# Altium footprint library 2440PCBV5.PcbLib: 136 footprints (part 9 of 9)
Each footprint in its own frame and in the unit in brackets; x right, y up, seen from the top. Pads: shape width x height; smd on the part's side, far side on the other; paste and mask are expansions set on the pad; w line width, h text height; cw(c..) or ccw(c..) is an arc to the next point about the centre after c.
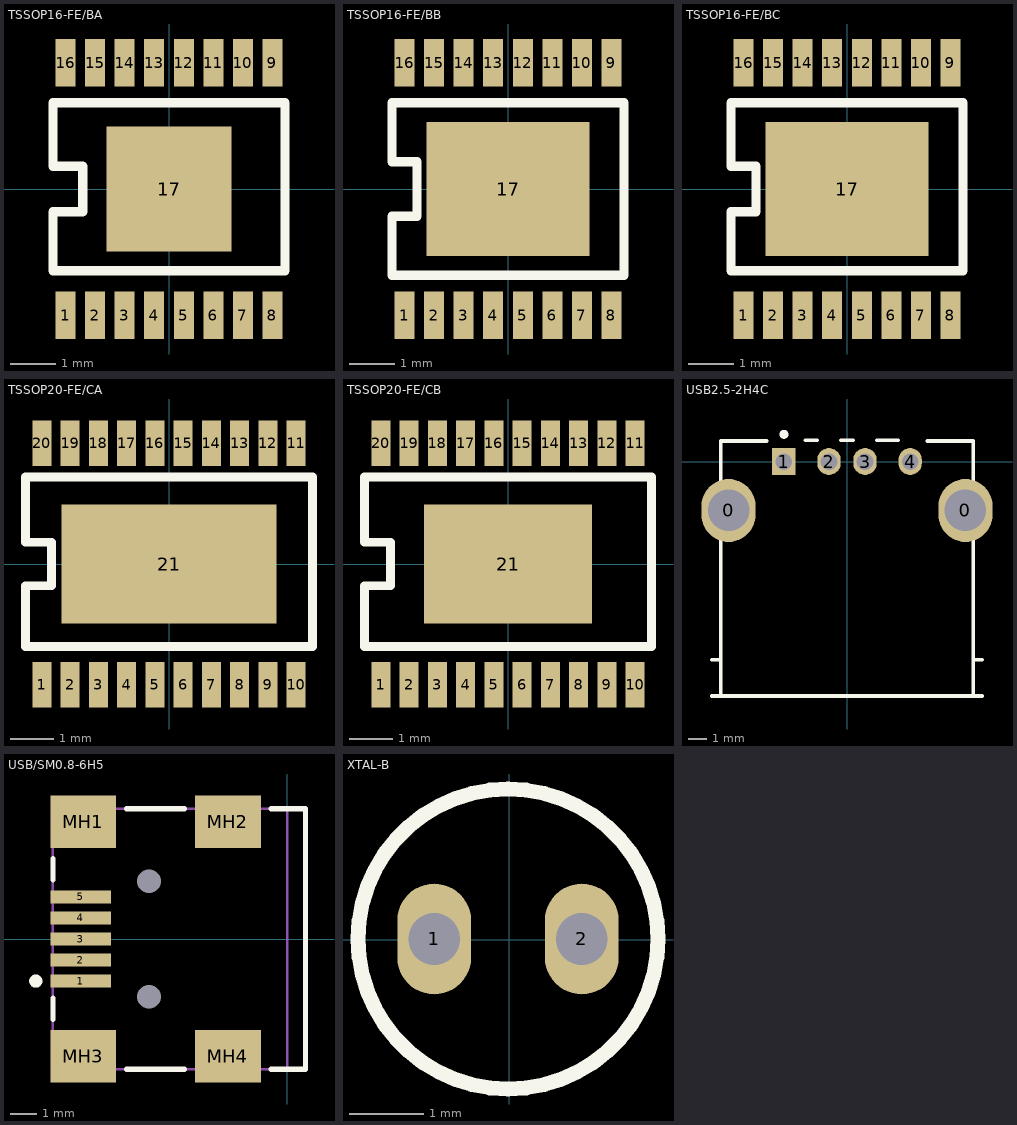
[diagram p8: the footprints below, top view; thin cyan lines are the x and y axes]

## TSSOP16-FE/BA [mm]
pads (17):
  rect 0.44x1.05 smd: 1(-2.275,-2.775) 2(-1.625,-2.775) 3(-0.975,-2.775) 4(-0.325,-2.775) 5(0.325,-2.775) 6(0.975,-2.775) 7(1.625,-2.775) 8(2.275,-2.775) 9(2.275,2.775) 10(1.625,2.775) 11(0.975,2.775) 12(0.325,2.775) 13(-0.325,2.775) 14(-0.975,2.775) 15(-1.625,2.775) 16(-2.275,2.775)
  rect 2.74x2.74 smd: 17(0,0)
Top Overlay:
  lines w0.203: -2.55,-1.8 2.55,-1.8 2.55,1.9 -2.55,1.9 -2.55,0.5 -1.9,0.5 -1.9,-0.5 -2.55,-0.5 -2.55,-1.8

## TSSOP16-FE/BB [mm]
pads (17):
  rect 0.44x1.05 smd: 1(-2.275,-2.775) 2(-1.625,-2.775) 3(-0.975,-2.775) 4(-0.325,-2.775) 5(0.325,-2.775) 6(0.975,-2.775) 7(1.625,-2.775) 8(2.275,-2.775) 9(2.275,2.775) 10(1.625,2.775) 11(0.975,2.775) 12(0.325,2.775) 13(-0.325,2.775) 14(-0.975,2.775) 15(-1.625,2.775) 16(-2.275,2.775)
  rect 3.58x2.95 smd: 17(0,0)
Top Overlay:
  lines w0.203: -2.55,-1.9 -2.55,-0.6 -2,-0.6 -2,0.6 -2.55,0.6 -2.55,1.9 2.55,1.9 2.55,-1.9 -2.55,-1.9

## TSSOP16-FE/BC [mm]
pads (17):
  rect 0.44x1.05 smd: 1(-2.275,-2.775) 2(-1.625,-2.775) 3(-0.975,-2.775) 4(-0.325,-2.775) 5(0.325,-2.775) 6(0.975,-2.775) 7(1.625,-2.775) 8(2.275,-2.775) 9(2.275,2.775) 10(1.625,2.775) 11(0.975,2.775) 12(0.325,2.775) 13(-0.325,2.775) 14(-0.975,2.775) 15(-1.625,2.775) 16(-2.275,2.775)
  rect 3.58x2.94 smd: 17(0,0)
Top Overlay:
  lines w0.203: -2.55,-1.8 -2.55,-0.5 -2,-0.5 -2,0.5 -2.55,0.5 -2.55,1.9 2.55,1.9 2.55,-1.8 -2.55,-1.8

## TSSOP20-FE/CA [mm]
pads (21):
  rect 0.44x1.05 smd: 1(-2.925,-2.775) 2(-2.275,-2.775) 3(-1.625,-2.775) 4(-0.975,-2.775) 5(-0.325,-2.775) 6(0.325,-2.775) 7(0.975,-2.775) 8(1.625,-2.775) 9(2.275,-2.775) 10(2.925,-2.775) 11(2.925,2.775) 12(2.275,2.775) 13(1.625,2.775) 14(0.975,2.775) 15(0.325,2.775) 16(-0.325,2.775) 17(-0.975,2.775) 18(-1.625,2.775) 19(-2.275,2.775) 20(-2.925,2.775)
  rect 4.95x2.74 smd: 21(0,0)
Top Overlay:
  lines w0.203: -3.3,-1.9 -3.3,-0.5 -2.7,-0.5 -2.7,0.5 -3.3,0.5 -3.3,2 3.3,2 3.3,-1.9 -3.3,-1.9

## TSSOP20-FE/CB [mm]
pads (21):
  rect 0.44x1.05 smd: 1(-2.925,-2.775) 2(-2.275,-2.775) 3(-1.625,-2.775) 4(-0.975,-2.775) 5(-0.325,-2.775) 6(0.325,-2.775) 7(0.975,-2.775) 8(1.625,-2.775) 9(2.275,-2.775) 10(2.925,-2.775) 11(2.925,2.775) 12(2.275,2.775) 13(1.625,2.775) 14(0.975,2.775) 15(0.325,2.775) 16(-0.325,2.775) 17(-0.975,2.775) 18(-1.625,2.775) 19(-2.275,2.775) 20(-2.925,2.775)
  rect 3.86x2.74 smd: 21(0,0)
Top Overlay:
  lines w0.203: -3.3,-1.9 3.3,-1.9 3.3,2 -3.3,2 -3.3,0.5 -2.7,0.5 -2.7,-0.5 -3.3,-0.5 -3.3,-1.9

## USB2.5-2H4C [mm] "Connector; USB1.1, Type A, Thru-Hole; 4 Position; Right Angle"
height 7.01
pads (6):
  oval 3x3.5 hole 2.3 mask+0.07: 0(-6.57,-2.71) 0(6.57,-2.71)
  rect 1.3x1.5 hole 0.92 mask+0.07: 1(-3.5,0)
  oval 1.3x1.5 hole 0.92 mask+0.07: 2(-1,0) 3(1,0) 4(3.5,0)
Top Overlay:
  circle w0.25: c-3.5,1.513 r0.125
  lines w0.2: -6.985,1.143 -4.445,1.143 ; -2.3,1.173 -1.66,1.173 ; -0.34,1.173 0.34,1.173 ; 1.66,1.173 2.84,1.173 ; 4.445,1.143 6.985,1.143
  lines w0.203: -7.5,-13 -7,-13 ; -7.5,-11 -7,-11 ; -7,1.15 -7,0 -7,-13 ; 7,-11 7.5,-11 ; 7,1.15 7,0 7,-13 ; 7.5,-13 7,-13 ; -7,-13 7,-13
3D body: height 7.65, standoff -3.61, extent -8.116,-13 8.116,1

## USB/SM0.8-6H5 [mm] "Connector; USB2.0, Type B, SM; 5 Position; Right Angle"
height 3.9
pads (11):
  rect 2.3x0.5 smd: 1(-7.85,-1.6) 2(-7.85,-0.8) 3(-7.85,0) 4(-7.85,0.8) 5(-7.85,1.6)
  rect 2.5x2 smd: MH1(-7.75,4.45) MH2(-2.25,4.45) MH3(-7.75,-4.45) MH4(-2.25,-4.45)
  round 0.6 hole 0.9 unplated: ""(-5.25,-2.2) ""(-5.25,2.2)
Top Overlay:
  circle w0.25: c-9.55,-1.6 r0.125
  lines w0.2: -8.9,-3.05 -8.9,-2.25 ; -8.9,2.25 -8.9,3.05 ; -6.1,-4.95 -3.9,-4.95 ; -6.1,4.95 -3.9,4.95 ; -0.6,-4.95 0.7,-4.95 0.7,4.95 -0.6,4.95
Mechanical 2:
  text "PCB Edge" at 0.432,-4.036 h0.25
Mechanical 5:
  lines w0.1: -8.9,-4.95 0.7,-4.95 ; -8.9,4.95 0.7,4.95 ; 0,-4.95 0,4.95
Mechanical 13:
  lines w0.1: -8.9,-4.95 -8.9,4.95 ; 0.7,-4.95 0.7,4.95
3D body: height 3.9, standoff 0, extent -8.9,-4.95 0.7,4.95

## XTAL-B [mm]
pads (2):
  oval 1x1.5 hole 0.7: 1(-1.017,0.012) 2(0.983,0.012)
Top Overlay:
  circle w0.2: c-0.017,0.012 r2.032
3D body: height 8.2, standoff -2.95, extent -1.575,-1.586 1.525,1.514